# Altium integrated library SMT172-TO92.IntLib: 1 symbol
Pins are listed as number, name and electrical type; pins without a type are passive.

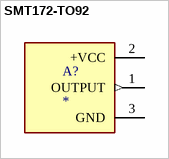
[diagram p0: symbol SMT172-TO92]

## SMT172-TO92
designator A?
IC temperature sensor PWM -45+130Â°C 2, 7-5, 5V TO92; MF: Smartec; MP: SMT172-TO92; SnapEDA_Link: https://www.snapeda.com/parts/SMT172-TO92/Smartec/view-part/?ref=snap; Package: TO-92 Smartec; Price: None; Availability: Not in stock; Check_prices: https://www.snapeda.com/parts/SMT172-TO92/Smartec/view-part/?ref=eda; Value: *
footprint TO92127P508H508-3
pins: 1 OUTPUT (out), 2 +VCC (power), 3 GND (power)